# EAGLE library part FT4232HL-REEL (library mmWAVE)
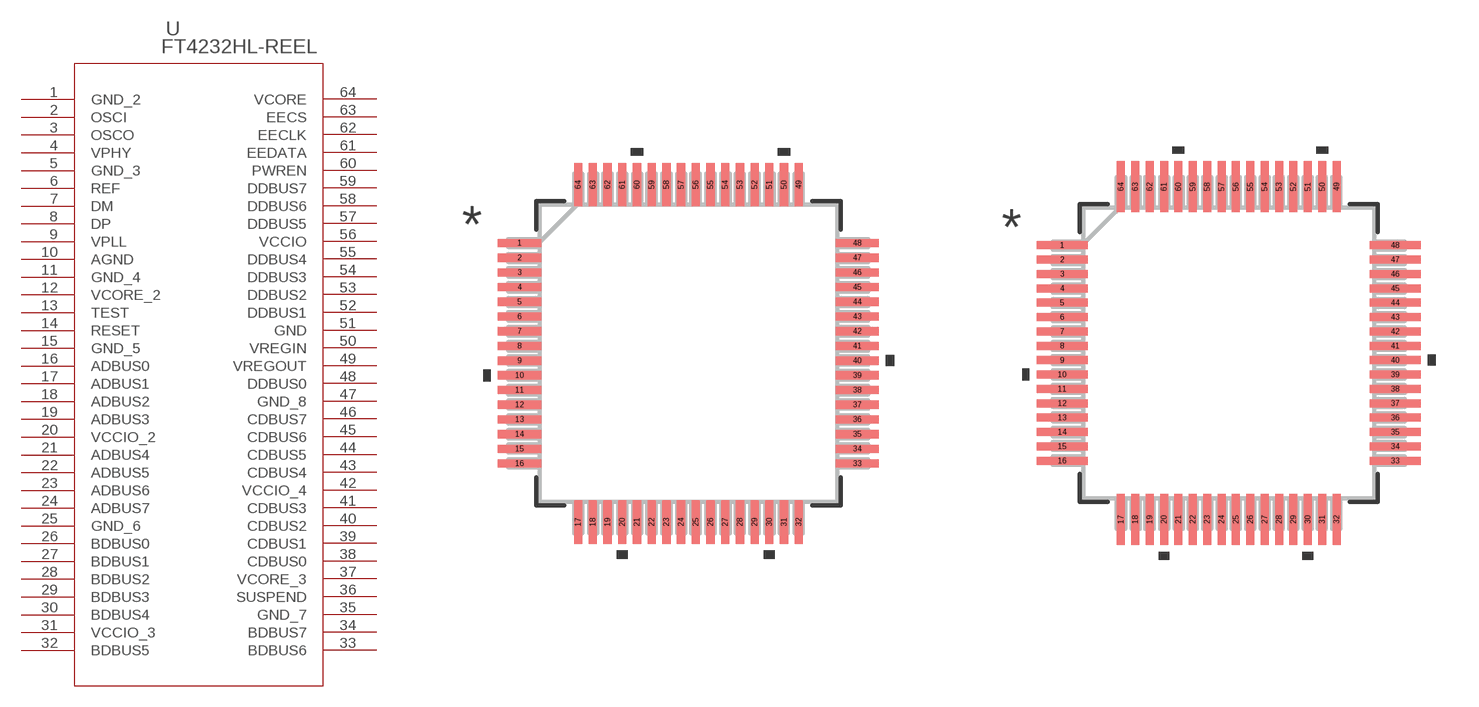
[diagram p5: symbol with the pads of LQFP64_FT4232_FTD; footprints LQFP64_FT4232_FTD, LQFP64_FT4232_FTD-M]

Designator prefix U

## FT4232HL-REEL (COPYRIGHT: Copyright (C) 2025 Ultra Librarian. All rights reserved.; MANUFACTURER_PART_NUMBER: FT4232HL-REEL; MFR_NAME: FTDI, Future Technology Devices International Ltd; TYPE: Interface)  [LQFP64_FT4232_FTD]
1  GND_2  pas
2  OSCI  in
3  OSCO  out
4  VPHY  pwr
5  GND_3  pas
6  REF  in
7  DM
8  DP
9  VPLL  pwr
10  AGND  pas
11  GND_4  pas
12  VCORE_2  pwr
13  TEST  in
14  RESET  in
15  GND_5  pas
16  ADBUS0
17  ADBUS1
18  ADBUS2
19  ADBUS3
20  VCCIO_2  pwr
21  ADBUS4
22  ADBUS5
23  ADBUS6
24  ADBUS7
25  GND_6  pas
26  BDBUS0
27  BDBUS1
28  BDBUS2
29  BDBUS3
30  BDBUS4
31  VCCIO_3  pwr
32  BDBUS5
33  BDBUS6
34  BDBUS7
35  GND_7  pas
36  SUSPEND  out
37  VCORE_3  pwr
38  CDBUS0
39  CDBUS1
40  CDBUS2
41  CDBUS3
42  VCCIO_4  pwr
43  CDBUS4
44  CDBUS5
45  CDBUS6
46  CDBUS7
47  GND_8  pas
48  DDBUS0
49  VREGOUT  out
50  VREGIN  pwr
51  GND  pas
52  DDBUS1
53  DDBUS2
54  DDBUS3
55  DDBUS4
56  VCCIO  pwr
57  DDBUS5
58  DDBUS6
59  DDBUS7
60  PWREN  out
61  EEDATA  pas
62  EECLK  pas
63  EECS  pas
64  VCORE  pwr

## FT4232HL-REELLQFP64_FT4232_FTD-M (COPYRIGHT: Copyright (C) 2025 Ultra Librarian. All rights reserved.; MANUFACTURER_PART_NUMBER: FT4232HL-REEL; MFR_NAME: FTDI, Future Technology Devices International Ltd; TYPE: Interface)  [LQFP64_FT4232_FTD-M]
Pads as for LQFP64_FT4232_FTD

## FT4232HL-REELLQFP64_FT4232_FTD-L (COPYRIGHT: Copyright (C) 2025 Ultra Librarian. All rights reserved.; MANUFACTURER_PART_NUMBER: FT4232HL-REEL; MFR_NAME: FTDI, Future Technology Devices International Ltd; TYPE: Interface)  [LQFP64_FT4232_FTD-L]
Pads as for LQFP64_FT4232_FTD

## Footprint LQFP64_FT4232_FTD (pad centres in mm)
smd 1.473 x 0.279: 1 -5.74,3.751; 2 -5.74,3.251; 3 -5.74,2.751; 4 -5.74,2.251; 5 -5.74,1.75; 6 -5.74,1.25; 7 -5.74,0.75; 8 -5.74,0.25; 9 -5.74,-0.25; 10 -5.74,-0.75; 11 -5.74,-1.25; 12 -5.74,-1.75; 13 -5.74,-2.251; 14 -5.74,-2.751; 15 -5.74,-3.251; 16 -5.74,-3.751; 33 5.74,-3.751; 34 5.74,-3.251; 35 5.74,-2.751; 36 5.74,-2.251; 37 5.74,-1.75; 38 5.74,-1.25; 39 5.74,-0.75; 40 5.74,-0.25; 41 5.74,0.25; 42 5.74,0.75; 43 5.74,1.25; 44 5.74,1.75; 45 5.74,2.251; 46 5.74,2.751; 47 5.74,3.251; 48 5.74,3.751
smd 0.279 x 1.473: 17 -3.751,-5.74; 18 -3.251,-5.74; 19 -2.751,-5.74; 20 -2.251,-5.74; 21 -1.75,-5.74; 22 -1.25,-5.74; 23 -0.75,-5.74; 24 -0.25,-5.74; 25 0.25,-5.74; 26 0.75,-5.74; 27 1.25,-5.74; 28 1.75,-5.74; 29 2.251,-5.74; 30 2.751,-5.74; 31 3.251,-5.74; 32 3.751,-5.74; 49 3.751,5.74; 50 3.251,5.74; 51 2.751,5.74; 52 2.251,5.74; 53 1.75,5.74; 54 1.25,5.74; 55 0.75,5.74; 56 0.25,5.74; 57 -0.25,5.74; 58 -0.75,5.74; 59 -1.25,5.74; 60 -1.75,5.74; 61 -2.251,5.74; 62 -2.751,5.74; 63 -3.251,5.74; 64 -3.751,5.74

## Footprint LQFP64_FT4232_FTD-M (pad centres in mm)
smd 1.778 x 0.279: 1 -5.791,3.751; 2 -5.791,3.251; 3 -5.791,2.751; 4 -5.791,2.251; 5 -5.791,1.75; 6 -5.791,1.25; 7 -5.791,0.75; 8 -5.791,0.25; 9 -5.791,-0.25; 10 -5.791,-0.75; 11 -5.791,-1.25; 12 -5.791,-1.75; 13 -5.791,-2.251; 14 -5.791,-2.751; 15 -5.791,-3.251; 16 -5.791,-3.751; 33 5.791,-3.751; 34 5.791,-3.251; 35 5.791,-2.751; 36 5.791,-2.251; 37 5.791,-1.75; 38 5.791,-1.25; 39 5.791,-0.75; 40 5.791,-0.25; 41 5.791,0.25; 42 5.791,0.75; 43 5.791,1.25; 44 5.791,1.75; 45 5.791,2.251; 46 5.791,2.751; 47 5.791,3.251; 48 5.791,3.751
smd 0.279 x 1.778: 17 -3.751,-5.791; 18 -3.251,-5.791; 19 -2.751,-5.791; 20 -2.251,-5.791; 21 -1.75,-5.791; 22 -1.25,-5.791; 23 -0.75,-5.791; 24 -0.25,-5.791; 25 0.25,-5.791; 26 0.75,-5.791; 27 1.25,-5.791; 28 1.75,-5.791; 29 2.251,-5.791; 30 2.751,-5.791; 31 3.251,-5.791; 32 3.751,-5.791; 49 3.751,5.791; 50 3.251,5.791; 51 2.751,5.791; 52 2.251,5.791; 53 1.75,5.791; 54 1.25,5.791; 55 0.75,5.791; 56 0.25,5.791; 57 -0.25,5.791; 58 -0.75,5.791; 59 -1.25,5.791; 60 -1.75,5.791; 61 -2.251,5.791; 62 -2.751,5.791; 63 -3.251,5.791; 64 -3.751,5.791

## Footprint LQFP64_FT4232_FTD-L (pad centres in mm)
smd 1.168 x 0.229: 1 -5.69,3.751; 2 -5.69,3.251; 3 -5.69,2.751; 4 -5.69,2.251; 5 -5.69,1.75; 6 -5.69,1.25; 7 -5.69,0.75; 8 -5.69,0.25; 9 -5.69,-0.25; 10 -5.69,-0.75; 11 -5.69,-1.25; 12 -5.69,-1.75; 13 -5.69,-2.251; 14 -5.69,-2.751; 15 -5.69,-3.251; 16 -5.69,-3.751; 33 5.69,-3.751; 34 5.69,-3.251; 35 5.69,-2.751; 36 5.69,-2.251; 37 5.69,-1.75; 38 5.69,-1.25; 39 5.69,-0.75; 40 5.69,-0.25; 41 5.69,0.25; 42 5.69,0.75; 43 5.69,1.25; 44 5.69,1.75; 45 5.69,2.251; 46 5.69,2.751; 47 5.69,3.251; 48 5.69,3.751
smd 0.229 x 1.168: 17 -3.751,-5.69; 18 -3.251,-5.69; 19 -2.751,-5.69; 20 -2.251,-5.69; 21 -1.75,-5.69; 22 -1.25,-5.69; 23 -0.75,-5.69; 24 -0.25,-5.69; 25 0.25,-5.69; 26 0.75,-5.69; 27 1.25,-5.69; 28 1.75,-5.69; 29 2.251,-5.69; 30 2.751,-5.69; 31 3.251,-5.69; 32 3.751,-5.69; 49 3.751,5.69; 50 3.251,5.69; 51 2.751,5.69; 52 2.251,5.69; 53 1.75,5.69; 54 1.25,5.69; 55 0.75,5.69; 56 0.25,5.69; 57 -0.25,5.69; 58 -0.75,5.69; 59 -1.25,5.69; 60 -1.75,5.69; 61 -2.251,5.69; 62 -2.751,5.69; 63 -3.251,5.69; 64 -3.751,5.69